# Altium schematic symbol library 6N139VM.SchLib: 1 symbol
Pins are listed as number, name and electrical type; pins without a type are passive.

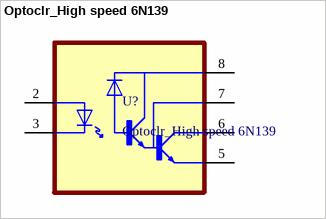
[diagram p0: symbol Optoclr_High speed 6N139]

## Optoclr_High speed 6N139
designator U?
Optoisolator Darlington with Base Output 5000Vrms 1 Channel 8-DIP Optoclr_High speed 6N139; MF: ON Semiconductor; MP: 6N139VM; SnapEDA_Link: https://www.snapeda.com/parts/6N139VM/Onsemi/view-part/?ref=snap; Package: PDIP-8-8 ON Semiconductor; Value: *; Check_prices: https://www.snapeda.com/parts/6N139VM/Onsemi/view-part/?ref=eda
footprint DIP762W50P254L977H451Q8
pins: 2 A, 3 C, 5 GND (power), 6 VO, 7 VB, 8 VCC (power)